# Altium integrated library STM32wenshidu.IntLib: 19 symbols
Pins are listed as number, name and electrical type; pins without a type are passive.

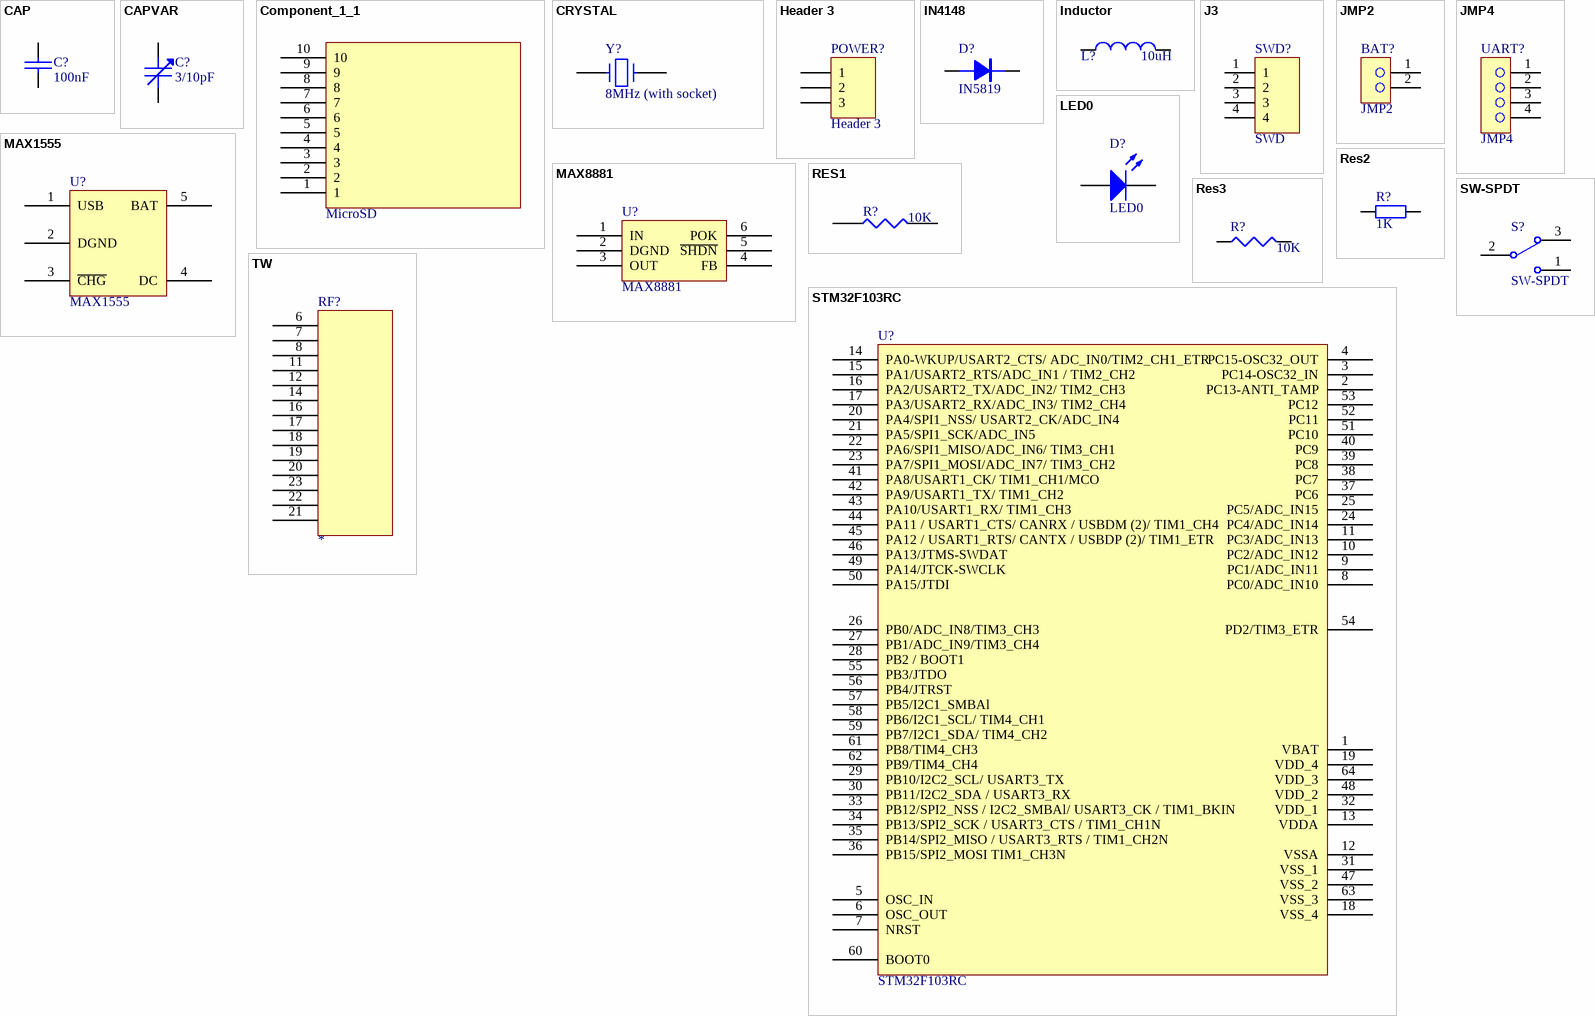
[diagram p0: symbols CAP to TW]

## CAP
designator C?, comment 100nF
Capacitor
footprint 0603
pins: 1, 2

## CAPVAR
designator C?, comment 3/10pF
Variable Capacitor
footprint 0603
pins: 1, 2

## Component_1_1
designator *?, comment MicroSD
footprint GMICROSD
footprint GMICROSD
pins: 1, 2, 3, 4, 5, 6, 7, 8, 9, 10

## CRYSTAL
designator Y?, comment 8MHz (with socket)
Crystal
footprint XTAL-D
pins: 1, 2

## Header 3
designator POWER?
Header, 3-Pin; LatestRevisionDate: 17-Jul-2002; LatestRevisionNote: Re-released for DXP Platform.; Publisher: Altium Limited
signal-integrity model Connector
footprint AC-IN0
pins: 1, 2, 3

## IN4148
designator D?, comment IN5819
footprint 0805
pins: 1 A, 2 K

## Inductor
designator L?  value 10uH  (hidden comment: Inductor)
Code_IEC: 1005; Published: 8-Jun-2000; LatestRevisionDate: 17-Jul-2002; LatestRevisionNote: Re-released for DXP Platform.; PackageReference: 0402-A; Publisher: Altium Limited; Code_JEITA: 0402
footprint 0603
footprint L0603 (Chip Inductor; Body 1.6 x 0.8 mm (LxW typ))
footprint 2012_Chip (2012 Chip; Chip Inductor; Body 2.0 x 1.2 mm (LxW typ))
footprint 2029 (Chip Inductor; Body 2 x 1.2 mm (LxW typ))
footprint 3261 (3216 Chip; Chip Inductor; Body 3.2 x 1.6 mm (LxW typ))
footprint 4564_Chip (4564 Chip; Chip Inductor; Body 4.5 x 6.4 mm (LxW typ))
simulation model INDUCTOR (Inductor)
signal-integrity model Inductor
pins: 1, 2

## J3
designator SWD?, comment SWD
footprint J3
pins: 1, 2, 3, 4

## JMP2
designator BAT?
footprint LIDIANCHI
pins: 1, 2

## JMP4
designator UART?
footprint SIP4
pins: 1, 2, 3, 4

## LED0
designator D?
Typical INFRARED GaAs LED; Published: 8-Jun-2000; LatestRevisionDate: 08-Jul-2005; LatestRevisionNote: Mech Layer 1 removed.; PackageReference: LED-0; Publisher: Altium Limited
simulation model LED0 (Diode)
footprint SIP2
pins: 1 A, 2 K

## MAX1555
designator U?
footprint MAX1555
pins: 1 USB, 2 DGND, 3 ~{CHG}, 4 DC, 5 BAT

## MAX8881
designator U?
footprint MAX8881
footprint SOT23-6
pins: 1 IN, 2 DGND, 3 OUT, 4 FB, 5 ~{SHDN}, 6 POK

## RES1
designator R?, comment 10K
footprint 0603
pins: 1, 2

## Res2
designator R?  value 1K  (hidden comment: Res2)
Resistor; Published: 8-Jun-2000; LatestRevisionDate: 17-Jul-2002; LatestRevisionNote: Re-released for DXP Platform.; PackageReference: AXIAL-0.4; Publisher: Altium Limited
footprint AXIAL-0.4 (Resistor; 2 Leads)
simulation model RESISTOR (Resistor)
signal-integrity model Res
footprint 0805
footprint 0603
pins: 1, 2

## Res3
designator R?  value 10K  (hidden comment: Res3)
Resistor; Published: 8-Jun-2000; LatestRevisionDate: 29-May-2009; LatestRevisionNote: IPC-7351 Footprint Added.; PackageReference: J1-0603; Publisher: Altium Limited; PackageDescription: Chip Resistor
footprint J1-0603 (Chip Resistor, Body 1.6x0.8mm, IPC High Density)
footprint 14-1210 (Chip Resistor, Body 3.2x2.5mm, IPC High Density)
footprint 12Z-2010 (Chip Resistor, Body 5.0x2.5mm, IPC High Density)
footprint RESC6332 (Chip Resistor, Body 6.3x3.2mm, IPC High Density)
simulation model RESISTOR (Resistor)
signal-integrity model Res
pins: 1, 2

## STM32F103RC
designator U?
footprint LQPF64
pins: 1 VBAT, 2 PC13-ANTI_TAMP, 3 PC14-OSC32_IN, 4 PC15-OSC32_OUT, 5 OSC_IN, 6 OSC_OUT, 7 NRST, 8 PC0/ADC_IN10, 9 PC1/ADC_IN11, 10 PC2/ADC_IN12, 11 PC3/ADC_IN13, 12 VSSA, 13 VDDA, 14 PA0-WKUP/USART2_CTS/
ADC_IN0/TIM2_CH1_ETR, 15 PA1/USART2_RTS/ADC_IN1
/
TIM2_CH2, 16 PA2/USART2_TX/ADC_IN2/
TIM2_CH3, 17 PA3/USART2_RX/ADC_IN3/
TIM2_CH4, 18 VSS_4, 19 VDD_4, 20 PA4/SPI1_NSS/
USART2_CK/ADC_IN4, 21 PA5/SPI1_SCK/ADC_IN5, 22 PA6/SPI1_MISO/ADC_IN6/
TIM3_CH1, 23 PA7/SPI1_MOSI/ADC_IN7/
TIM3_CH2, 24 PC4/ADC_IN14, 25 PC5/ADC_IN15, 26 PB0/ADC_IN8/TIM3_CH3, 27 PB1/ADC_IN9/TIM3_CH4, 28 PB2 / BOOT1, 29 PB10/I2C2_SCL/
USART3_TX, 30 PB11/I2C2_SDA /
USART3_RX, 31 VSS_1, 32 VDD_1, 33 PB12/SPI2_NSS /
I2C2_SMBAl/
USART3_CK /
TIM1_BKIN, 34 PB13/SPI2_SCK /
USART3_CTS /
TIM1_CH1N, 35 PB14/SPI2_MISO /
USART3_RTS /
TIM1_CH2N, 36 PB15/SPI2_MOSI
TIM1_CH3N, 37 PC6, 38 PC7, 39 PC8, 40 PC9, 41 PA8/USART1_CK/
TIM1_CH1/MCO, 42 PA9/USART1_TX/
TIM1_CH2, 43 PA10/USART1_RX/
TIM1_CH3, 44 PA11 / USART1_CTS/
CANRX / USBDM (2)/
TIM1_CH4, 45 PA12 / USART1_RTS/
CANTX / USBDP (2)/
TIM1_ETR, 46 PA13/JTMS-SWDAT, 47 VSS_2, 48 VDD_2, 49 PA14/JTCK-SWCLK, 50 PA15/JTDI, 51 PC10, 52 PC11, 53 PC12, 54 PD2/TIM3_ETR, 55 PB3/JTDO, 56 PB4/JTRST, 57 PB5/I2C1_SMBAl, 58 PB6/I2C1_SCL/
TIM4_CH1, 59 PB7/I2C1_SDA/
TIM4_CH2, 60 BOOT0, 61 PB8/TIM4_CH3, 62 PB9/TIM4_CH4, 63 VSS_3, 64 VDD_3

## SW-SPDT
designator S?
SPDT Subminiature Toggle Switch, Right Angle Mounting, Vertical Actuation; Published: 24-Mar-1999; LatestRevisionDate: 17-Dec-2003; LatestRevisionNote: Schematic revised, PCB Footprint replaced.; DatasheetDocument: 05-Dec-2000; PackageReference: TL36WW15050; Publisher: Altium Limited; ComponentLink1Description: Manufacturer Link; ComponentLink1URL: http://www.apem.com
footprint SWITCH
pins: 1, 2, 3

## TW
designator RF?
footprint TW
pins: 6, 7, 8, 11, 12, 14, 16, 17, 18, 19, 20, 21, 22, 23